# EAGLE library part 1X7-SMDPADS (library nano24rf)
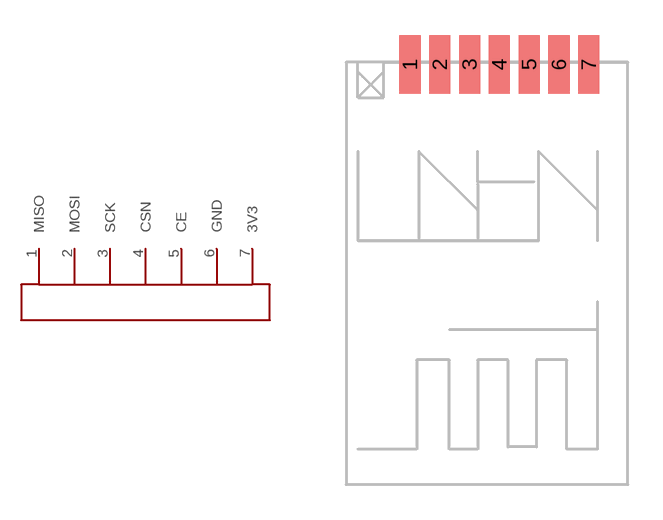
[diagram p1: symbol with the pads of SMD1,27-2,54; footprint SMD1,27-2,54]

Designator prefix -

## 1X7-SMDPADS  [SMD1,27-2,54]
1  MISO
2  MOSI
3  SCK
4  CSN
5  CE
6  GND
7  3V3

## Footprint SMD1,27-2,54 (pad centres in mm)
SMD PAD
smd 0.9 x 2.5: 1 2.82,-0.19; 2 4.09,-0.19; 3 5.36,-0.19; 4 6.63,-0.19; 5 7.9,-0.19; 6 9.17,-0.19; 7 10.44,-0.19